# EAGLE library part TL071 (library op-amp)
JFET OP-AMP
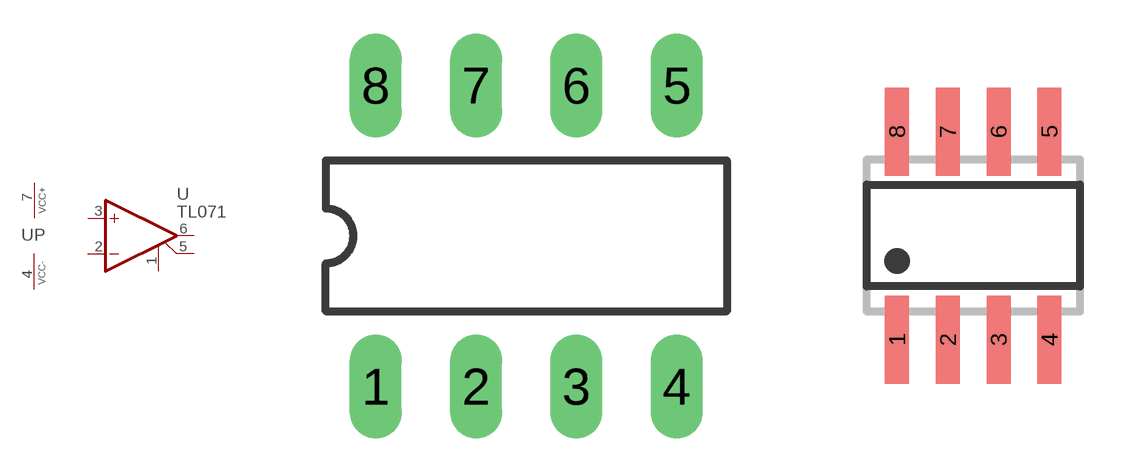
[diagram p30: symbol with the pads of DIL08; footprints DIL08, SO08]

Designator prefix U; gates G$2=_OFFNULL2 P=PWRN_VCC+- G$1=OPAMP_PV

## TL071P  [DIL08]
1  G$2:NULL1  pas
2  G$1:-IN  in
3  G$1:+IN  in
4  P:VCC-  pwr
5  G$2:NULL2  pas
6  G$1:OUT  out
7  P:VCC+  pwr

## TL071D  [SO08]
Pads as for DIL08

## TL071PS  [SOP08]
Pads as for DIL08

## Footprint DIL08 (pad centres in mm)
Dual In Line Package
drill 0.813 long: 1 -3.81,-3.81; 2 -1.27,-3.81; 3 1.27,-3.81; 4 3.81,-3.81; 5 3.81,3.81; 6 1.27,3.81; 7 -1.27,3.81; 8 -3.81,3.81

## Footprint SO08 (pad centres in mm)
SMALL OUTLINE INTEGRATED CIRCUIT body 3.9 mm/JEDEC MS-012AA
smd 0.6 x 2.2: 1 -1.905,-2.6; 2 -0.635,-2.6; 3 0.635,-2.6; 4 1.905,-2.6; 5 1.905,2.6; 6 0.635,2.6; 7 -0.635,2.6; 8 -1.905,2.6

## Footprint SOP08 (pad centres in mm)
SMALL OUTLINE INTEGRATED CIRCUIT 200 MIL BODY WIDTH (5.6MM X 6.9MM)
smd 0.6 x 2.2: 1 -1.905,-3.53; 2 -0.635,-3.53; 3 0.635,-3.53; 4 1.905,-3.53; 5 1.905,3.53; 6 0.635,3.53; 7 -0.635,3.53; 8 -1.905,3.53